# Altium schematic symbol library Hirose_FH12-16S-0.5SH.SchLib: 1 symbol
Pins are listed as number, name and electrical type; pins without a type are passive.

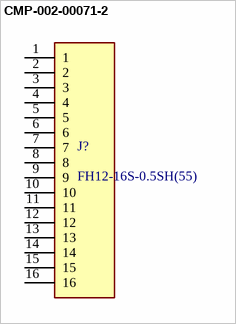
[diagram p0: symbol CMP-002-00071-2]

## CMP-002-00071-2
designator J?, comment FH12-16S-0.5SH(55)
16 Position FFC, FPC Connector Contacts, Bottom 0.020 (0.50mm) Surface Mount, Right Angle; MF: Hirose Electric; Design Item ID: FH12-16S-0.5SH(55); Case/Package: None; Source: FH12-16S-0.5SH(55).SchLib; Value: *; SnapEDA_Link: https://www.snapeda.com/parts/FH12-16S-0.5SH(55)/Hirose/view-part/?ref=snap; MP: FH12-16S-0.5SH(55); Pins: 16; Check_prices: https://www.snapeda.com/parts/FH12-16S-0.5SH(55)/Hirose/view-part/?ref=eda; Component Type: Standard
footprint HIROSE_FH12-16S-0.5SH(55)
pins: 1, 2, 3, 4, 5, 6, 7, 8, 9, 10, 11, 12, 13, 14, 15, 16